# Altium footprint library Miscellaneous Devices LC.PcbLib: 559 footprints (part 27 of 35)
Each footprint in its own frame and in the unit in brackets; x right, y up, seen from the top. Pads: shape width x height; smd on the part's side, far side on the other; paste and mask are expansions set on the pad; w line width, h text height; cw(c..) or ccw(c..) is an arc to the next point about the centre after c.
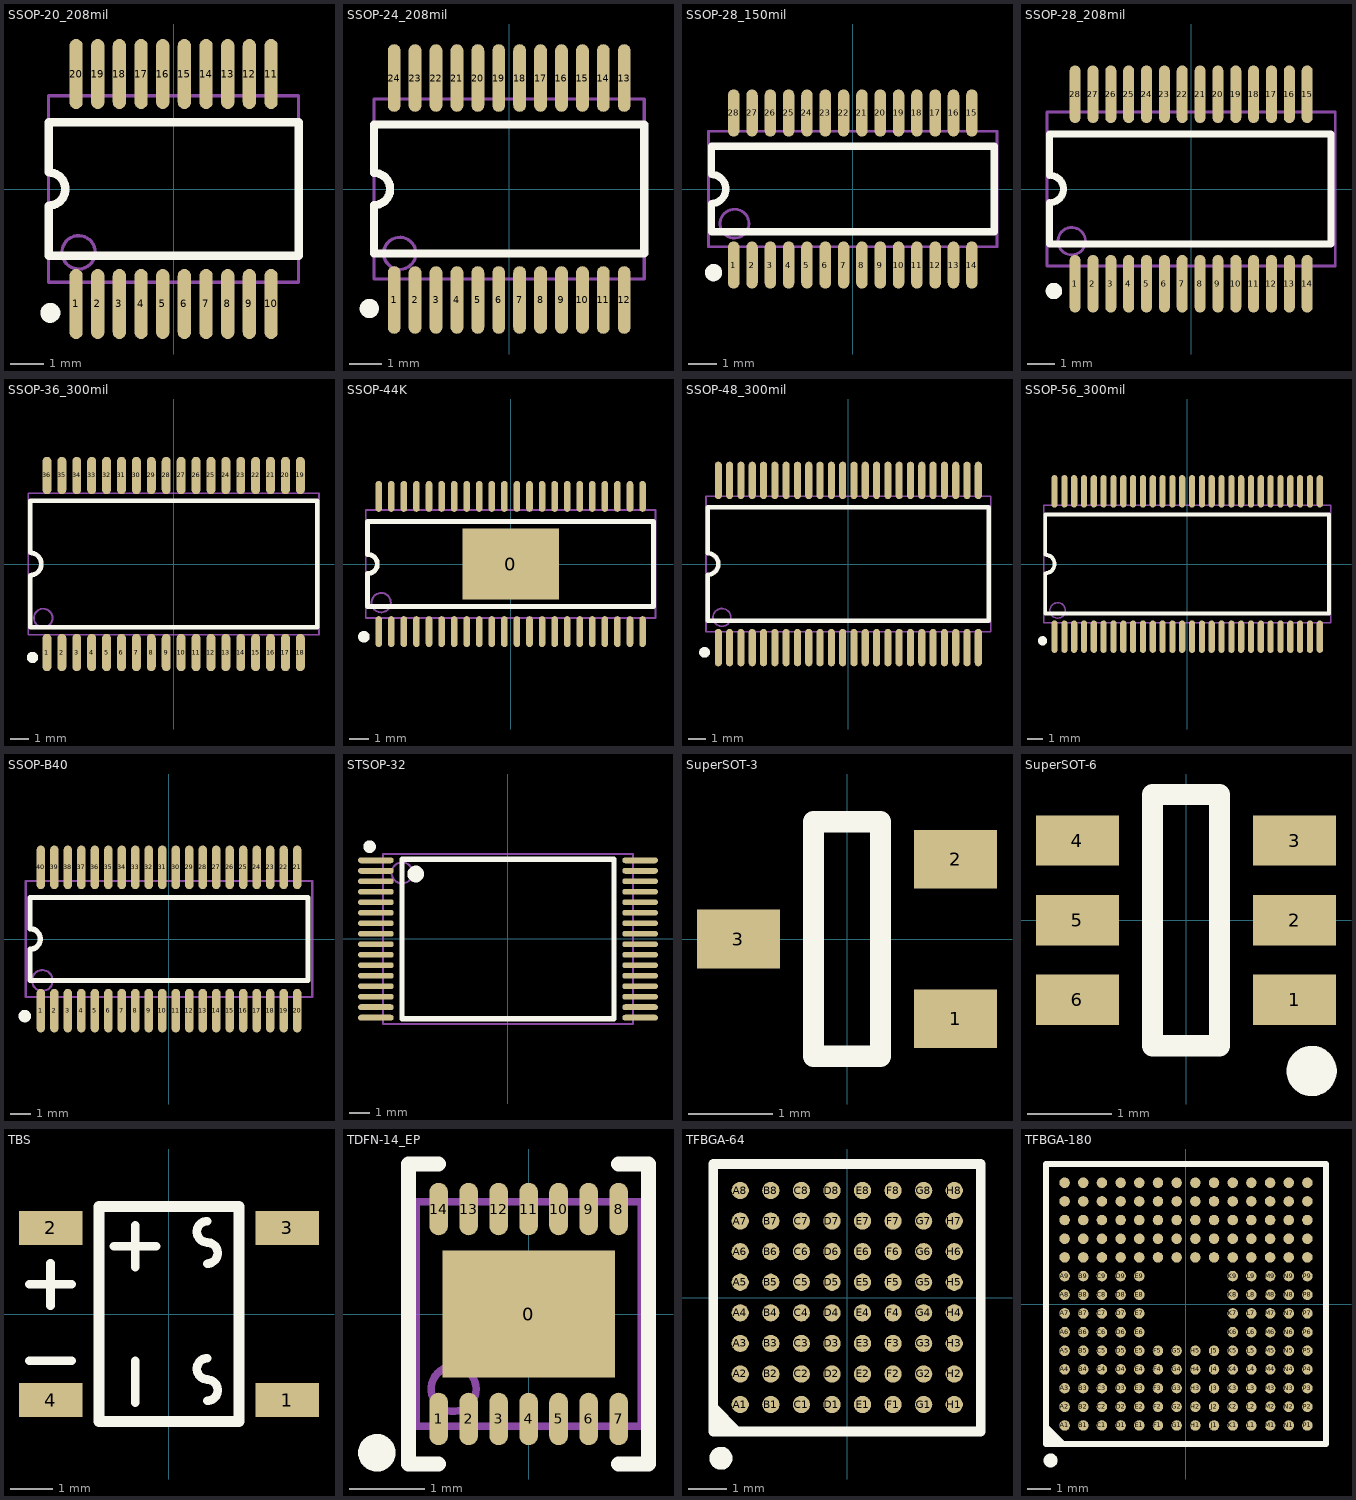
[diagram p26: the footprints below, top view; thin cyan lines are the x and y axes]

## SSOP-20_208mil [mm]
pads (20):
  oval 0.4x2.1 smd mask+0.051: 1(-2.925,-3.45) 2(-2.275,-3.45) 3(-1.625,-3.45) 4(-0.975,-3.45) 5(-0.325,-3.45) 6(0.325,-3.45) 7(0.975,-3.45) 8(1.625,-3.45) 9(2.275,-3.45) 10(2.925,-3.45) 11(2.925,3.45) 12(2.275,3.45) 13(1.625,3.45) 14(0.975,3.45) 15(0.325,3.45) 16(-0.325,3.45) 17(-0.975,3.45) 18(-1.625,3.45) 19(-2.275,3.45) 20(-2.925,3.45)
Top Overlay:
  circle w0.3: c-3.697,-3.715 r0.15
  lines w0.254: -3.75,-2 -3.75,-0.5 ccw(c-3.75,0) -3.75,0.5 -3.75,2 3.75,2 3.75,-2 -3.75,-2
Mechanical 13:
  circle w0.1: c-2.85,-1.9 r0.5
  lines w0.1: -3.75,-2.8 3.75,-2.8 3.75,2.8 -3.75,2.8 -3.75,-2.8

## SSOP-24_208mil [mm]
pads (24):
  oval 0.4x2.1 smd mask+0.051: 1(-3.575,-3.45) 2(-2.925,-3.45) 3(-2.275,-3.45) 4(-1.625,-3.45) 5(-0.975,-3.45) 6(-0.325,-3.45) 7(0.325,-3.45) 8(0.975,-3.45) 9(1.625,-3.45) 10(2.275,-3.45) 11(2.925,-3.45) 12(3.575,-3.45) 13(3.575,3.45) 14(2.925,3.45) 15(2.275,3.45) 16(1.625,3.45) 17(0.975,3.45) 18(0.325,3.45) 19(-0.325,3.45) 20(-0.975,3.45) 21(-1.625,3.45) 22(-2.275,3.45) 23(-2.925,3.45) 24(-3.575,3.45)
Top Overlay:
  circle w0.3: c-4.347,-3.715 r0.15
  lines w0.254: -4.2,-2 -4.2,-0.5 ccw(c-4.2,0) -4.2,0.5 -4.2,2 4.2,2 4.2,-2 -4.2,-2
Mechanical 13:
  circle w0.1: c-3.4,-2 r0.5
  lines w0.1: -4.2,-2.8 -4.2,2.8 4.2,2.8 4.2,-2.8 -4.2,-2.8

## SSOP-28_150mil [mm]
pads (28):
  oval 0.4x1.63 smd mask+0.051: 1(-4.127,-2.635) 2(-3.492,-2.635) 3(-2.857,-2.635) 4(-2.222,-2.635) 5(-1.587,-2.635) 6(-0.952,-2.635) 7(-0.317,-2.635) 8(0.318,-2.635) 9(0.953,-2.635) 10(1.588,-2.635) 11(2.223,-2.635) 12(2.858,-2.635) 13(3.493,-2.635) 14(4.128,-2.635) 15(4.128,2.635) 16(3.493,2.635) 17(2.858,2.635) 18(2.223,2.635) 19(1.588,2.635) 20(0.953,2.635) 21(0.318,2.635) 22(-0.317,2.635) 23(-0.952,2.635) 24(-1.587,2.635) 25(-2.222,2.635) 26(-2.857,2.635) 27(-3.492,2.635) 28(-4.127,2.635)
Top Overlay:
  circle w0.3: c-4.825,-2.9 r0.15
  lines w0.254: -4.9,-1.48 4.9,-1.48 4.9,1.48 -4.9,1.48 -4.9,0.5 cw(c-4.9,0) -4.9,-0.5 -4.9,-1.48
Mechanical 13:
  circle w0.1: c-4.1,-1.2 r0.5
  lines w0.1: -5,-2 -5,2 5,2 5,-2 -5,-2

## SSOP-28_208mil [mm]
pads (28):
  oval 0.4x2.1 smd mask+0.051: 1(-4.225,-3.45) 2(-3.575,-3.45) 3(-2.925,-3.45) 4(-2.275,-3.45) 5(-1.625,-3.45) 6(-0.975,-3.45) 7(-0.325,-3.45) 8(0.325,-3.45) 9(0.975,-3.45) 10(1.625,-3.45) 11(2.275,-3.45) 12(2.925,-3.45) 13(3.575,-3.45) 14(4.225,-3.45) 15(4.225,3.45) 16(3.575,3.45) 17(2.925,3.45) 18(2.275,3.45) 19(1.625,3.45) 20(0.975,3.45) 21(0.325,3.45) 22(-0.325,3.45) 23(-0.975,3.45) 24(-1.625,3.45) 25(-2.275,3.45) 26(-2.925,3.45) 27(-3.575,3.45) 28(-4.225,3.45)
Top Overlay:
  circle w0.3: c-4.998,-3.715 r0.15
  lines w0.254: -5.15,-2 -5.15,-0.5 ccw(c-5.15,0) -5.15,0.5 -5.15,2 5.1,2 5.1,-2 -5.15,-2
Mechanical 13:
  circle w0.1: c-4.35,-1.9 r0.5
  lines w0.1: -5.25,-2.8 -5.25,2.8 5.25,2.8 5.25,-2.8 -5.25,-2.8

## SSOP-36_300mil [mm]
pads (36):
  oval 0.48x2 smd: 1(-6.8,-4.75) 2(-6,-4.75) 3(-5.2,-4.75) 4(-4.4,-4.75) 5(-3.6,-4.75) 6(-2.8,-4.75) 7(-2,-4.75) 8(-1.2,-4.75) 9(-0.4,-4.75) 10(0.4,-4.75) 11(1.2,-4.75) 12(2,-4.75) 13(2.8,-4.75) 14(3.6,-4.75) 15(4.4,-4.75) 16(5.2,-4.75) 17(6,-4.75) 18(6.8,-4.75) 19(6.8,4.75) 20(6,4.75) 21(5.2,4.75) 22(4.4,4.75) 23(3.6,4.75) 24(2.8,4.75) 25(2,4.75) 26(1.2,4.75) 27(0.4,4.75) 28(-0.4,4.75) 29(-1.2,4.75) 30(-2,4.75) 31(-2.8,4.75) 32(-3.6,4.75) 33(-4.4,4.75) 34(-5.2,4.75) 35(-6,4.75) 36(-6.8,4.75)
Top Overlay:
  circle w0.3: c-7.572,-5.015 r0.15
  lines w0.254: -7.7,-3.4 -7.7,-0.6 ccw(c-7.7,0) -7.7,0.6 -7.7,3.4 7.7,3.4 7.7,-3.4 -7.7,-3.4
Mechanical 13:
  circle w0.1: c-7,-2.9 r0.5
  lines w0.1: -7.8,-3.8 -7.8,3.8 7.8,3.8 7.8,-3.8 -7.8,-3.8

## SSOP-44K [mm]
pads (45):
  rect 5x3.7 smd: 0(0,0)
  oval 0.34x1.6 smd: 1(-6.825,-3.5) 2(-6.175,-3.5) 3(-5.525,-3.5) 4(-4.875,-3.5) 5(-4.225,-3.5) 6(-3.575,-3.5) 7(-2.925,-3.5) 8(-2.275,-3.5) 9(-1.625,-3.5) 10(-0.975,-3.5) 11(-0.325,-3.5) 12(0.325,-3.5) 13(0.975,-3.5) 14(1.625,-3.5) 15(2.275,-3.5) 16(2.925,-3.5) 17(3.575,-3.5) 18(4.225,-3.5) 19(4.875,-3.5) 20(5.525,-3.5) 21(6.175,-3.5) 22(6.825,-3.5) 23(6.825,3.5) 24(6.175,3.5) 25(5.525,3.5) 26(4.875,3.5) 27(4.225,3.5) 28(3.575,3.5) 29(2.925,3.5) 30(2.275,3.5) 31(1.625,3.5) 32(0.975,3.5) 33(0.325,3.5) 34(-0.325,3.5) 35(-0.975,3.5) 36(-1.625,3.5) 37(-2.275,3.5) 38(-2.925,3.5) 39(-3.575,3.5) 40(-4.225,3.5) 41(-4.875,3.5) 42(-5.525,3.5) 43(-6.175,3.5) 44(-6.825,3.5)
Top Overlay:
  circle w0.3: c-7.597,-3.765 r0.15
  lines w0.254: -7.4,-2.2 7.4,-2.2 7.4,2.2 -7.4,2.2 -7.4,0.5 cw(c-7.4,0) -7.4,-0.5 -7.4,-2.2
Mechanical 13:
  circle w0.1: c-6.7,-2 r0.5
  lines w0.1: -7.5,-2.8 7.5,-2.8 7.5,2.8 -7.5,2.8 -7.5,-2.8

## SSOP-48_300mil [mm]
pads (48):
  oval 0.4x2.1 smd mask+0.051: 1(-7.302,-4.7) 2(-6.667,-4.7) 3(-6.032,-4.7) 4(-5.397,-4.7) 5(-4.763,-4.7) 6(-4.127,-4.7) 7(-3.492,-4.7) 8(-2.857,-4.7) 9(-2.222,-4.7) 10(-1.587,-4.7) 11(-0.953,-4.7) 12(-0.318,-4.7) 13(0.318,-4.7) 14(0.953,-4.7) 15(1.587,-4.7) 16(2.222,-4.7) 17(2.857,-4.7) 18(3.492,-4.7) 19(4.127,-4.7) 20(4.763,-4.7) 21(5.397,-4.7) 22(6.032,-4.7) 23(6.667,-4.7) 24(7.302,-4.7) 25(7.302,4.7) 26(6.667,4.7) 27(6.032,4.7) 28(5.397,4.7) 29(4.763,4.7) 30(4.127,4.7) 31(3.492,4.7) 32(2.857,4.7) 33(2.222,4.7) 34(1.587,4.7) 35(0.953,4.7) 36(0.318,4.7) 37(-0.318,4.7) 38(-0.953,4.7) 39(-1.587,4.7) 40(-2.222,4.7) 41(-2.857,4.7) 42(-3.492,4.7) 43(-4.127,4.7) 44(-4.763,4.7) 45(-5.397,4.7) 46(-6.032,4.7) 47(-6.667,4.7) 48(-7.302,4.7)
Top Overlay:
  circle w0.3: c-8.075,-4.965 r0.15
  lines w0.254: -7.9,-3.2 -7.9,-0.6 ccw(c-7.9,0) -7.9,0.6 -7.9,3.2 7.9,3.2 7.9,-3.2 -7.9,-3.2
Mechanical 13:
  circle w0.1: c-7.1,-3 r0.5
  lines w0.1: -8,-3.8 -8,3.8 8,3.8 8,-3.8 -8,-3.8

## SSOP-56_300mil [mm]
pads (56):
  oval 0.4x2.1 smd mask+0.051: 1(-8.572,-4.7) 2(-7.937,-4.7) 3(-7.302,-4.7) 4(-6.667,-4.7) 5(-6.032,-4.7) 6(-5.397,-4.7) 7(-4.762,-4.7) 8(-4.127,-4.7) 9(-3.492,-4.7) 10(-2.857,-4.7) 11(-2.222,-4.7) 12(-1.587,-4.7) 13(-0.952,-4.7) 14(-0.317,-4.7) 15(0.318,-4.7) 16(0.953,-4.7) 17(1.588,-4.7) 18(2.223,-4.7) 19(2.858,-4.7) 20(3.493,-4.7) 21(4.128,-4.7) 22(4.763,-4.7) 23(5.398,-4.7) 24(6.033,-4.7) 25(6.668,-4.7) 26(7.303,-4.7) 27(7.938,-4.7) 28(8.573,-4.7) 29(8.573,4.7) 30(7.938,4.7) 31(7.303,4.7) 32(6.668,4.7) 33(6.033,4.7) 34(5.398,4.7) 35(4.763,4.7) 36(4.128,4.7) 37(3.493,4.7) 38(2.858,4.7) 39(2.223,4.7) 40(1.588,4.7) 41(0.953,4.7) 42(0.318,4.7) 43(-0.317,4.7) 44(-0.952,4.7) 45(-1.587,4.7) 46(-2.222,4.7) 47(-2.857,4.7) 48(-3.492,4.7) 49(-4.127,4.7) 50(-4.762,4.7) 51(-5.397,4.7) 52(-6.032,4.7) 53(-6.667,4.7) 54(-7.302,4.7) 55(-7.937,4.7) 56(-8.572,4.7)
Top Overlay:
  circle w0.3: c-9.345,-4.965 r0.15
  lines w0.254: -9.17,-3.2 9.17,-3.2 9.17,3.2 -9.17,3.2 -9.17,0.6 cw(c-9.17,0) -9.17,-0.6 -9.17,-3.2
Mechanical 13:
  circle w0.1: c-8.37,-3 r0.5
  lines w0.1: -9.27,-3.8 9.27,-3.8 9.27,3.8 -9.27,3.8 -9.27,-3.8

## SSOP-B40 [mm]
pads (40):
  oval 0.4x2.1 smd mask+0.051: 1(-6.175,-3.45) 2(-5.525,-3.45) 3(-4.875,-3.45) 4(-4.225,-3.45) 5(-3.575,-3.45) 6(-2.925,-3.45) 7(-2.275,-3.45) 8(-1.625,-3.45) 9(-0.975,-3.45) 10(-0.325,-3.45) 11(0.325,-3.45) 12(0.975,-3.45) 13(1.625,-3.45) 14(2.275,-3.45) 15(2.925,-3.45) 16(3.575,-3.45) 17(4.225,-3.45) 18(4.875,-3.45) 19(5.525,-3.45) 20(6.175,-3.45) 21(6.175,3.45) 22(5.525,3.45) 23(4.875,3.45) 24(4.225,3.45) 25(3.575,3.45) 26(2.925,3.45) 27(2.275,3.45) 28(1.625,3.45) 29(0.975,3.45) 30(0.325,3.45) 31(-0.325,3.45) 32(-0.975,3.45) 33(-1.625,3.45) 34(-2.275,3.45) 35(-2.925,3.45) 36(-3.575,3.45) 37(-4.225,3.45) 38(-4.875,3.45) 39(-5.525,3.45) 40(-6.175,3.45)
Top Overlay:
  circle w0.3: c-6.947,-3.715 r0.15
  lines w0.254: -6.7,-2 -6.7,-0.5 ccw(c-6.7,0) -6.7,0.5 -6.7,2 6.7,2 6.7,-2 -6.7,-2
Mechanical 13:
  circle w0.1: c-6.1,-2 r0.5
  lines w0.1: -6.9,-2.8 6.9,-2.8 6.9,2.8 -6.9,2.8 -6.9,-2.8

## STSOP-32 [mm]
pads (32):
  oval 1.7x0.28 smd mask+0.051: 1(-6.3,3.75) 2(-6.3,3.25) 3(-6.3,2.75) 4(-6.3,2.25) 5(-6.3,1.75) 6(-6.3,1.25) 7(-6.3,0.75) 8(-6.3,0.25) 9(-6.3,-0.25) 10(-6.3,-0.75) 11(-6.3,-1.25) 12(-6.3,-1.75) 13(-6.3,-2.25) 14(-6.3,-2.75) 15(-6.3,-3.25) 16(-6.3,-3.75) 17(6.3,-3.75) 18(6.3,-3.25) 19(6.3,-2.75) 20(6.3,-2.25) 21(6.3,-1.75) 22(6.3,-1.25) 23(6.3,-0.75) 24(6.3,-0.25) 25(6.3,0.25) 26(6.3,0.75) 27(6.3,1.25) 28(6.3,1.75) 29(6.3,2.25) 30(6.3,2.75) 31(6.3,3.25) 32(6.3,3.75)
Top Overlay:
  circle w0.3: c-6.6,4.4 r0.15
  circle w0.4: c-4.4,3.1 r0.2
  lines w0.254: -5.05,-3.8 5.05,-3.8 5.05,3.8 -5.05,3.8 -5.05,-3.8
Mechanical 13:
  circle w0.1: c-5.05,3.15 r0.5
  lines w0.1: -5.95,-4.05 5.95,-4.05 5.95,4.05 -5.95,4.05 -5.95,-4.05

## SuperSOT-3 [mm] "= SSOT-3"
pads (3):
  rect 0.99x0.7 smd: 1(1.295,-0.95) 2(1.295,0.95) 3(-1.295,0)
Top Overlay:
  lines w0.254: -0.4,-1.4 -0.4,1.4 0.4,1.4 0.4,-1.4 -0.4,-1.4

## SuperSOT-6 [mm] "= SSOT-6"
pads (6):
  rect 0.99x0.6 smd: 1(1.295,-0.95) 2(1.295,0) 3(1.295,0.95) 4(-1.295,0.95) 5(-1.295,0) 6(-1.295,-0.95)
Top Overlay:
  circle w0.3: c1.5,-1.8 r0.15
  lines w0.254: -0.4,-1.5 -0.4,1.5 0.4,1.5 0.4,-1.5 -0.4,-1.5

## TBS [mm]
pads (4):
  rect 1.5x0.8 smd: 1(2.794,-2.032) 2(-2.794,2.032) 3(2.794,2.032) 4(-2.794,-2.032)
Top Overlay:
  lines w0.203: -3.3,-1.1 -2.3,-1.1 ; -3.3,0.7 -2.3,0.7 ; -2.8,0.2 -2.8,1.2 ; -1.3,1.6 -0.3,1.6 ; -0.8,-2.1 -0.8,-1.1 ; -0.8,1.1 -0.8,2.1 ; 0.9,-2.05 ccw(c0.9,-1.8) 0.9,-1.55 ; 0.9,1.19 ccw(c0.9,1.44) 0.9,1.69 ; 0.908,-1.545 cw(c0.908,-1.295) 0.908,-1.045 ; 0.908,1.695 cw(c0.908,1.945) 0.908,2.195
  lines w0.254: -1.651,-2.54 -1.651,2.54 1.651,2.54 1.651,-2.54 -1.651,-2.54

## TDFN-14_EP [mm]
pads (15):
  rect 2.3x1.7 smd mask+0.051: 0(0,0)
  oval 0.25x0.7 smd mask+0.051: 1(-1.2,-1.4) 2(-0.8,-1.4) 3(-0.4,-1.4) 4(0,-1.4) 5(0.4,-1.4) 6(0.8,-1.4) 7(1.2,-1.4) 8(1.2,1.4) 9(0.8,1.4) 10(0.4,1.4) 11(0,1.4) 12(-0.4,1.4) 13(-0.8,1.4) 14(-1.2,1.4)
Top Overlay:
  circle w0.25: c-2.025,-1.85 r0.125
  lines w0.2: -1.2,-2 -1.6,-2 -1.6,2 -1.2,2 ; 1.2,-2 1.6,-2 1.6,2 1.2,2
Mechanical 13:
  circle w0.1: c-1,-1 r0.3
  lines w0.1: -1.5,-1.5 1.5,-1.5 1.5,1.5 -1.5,1.5 -1.5,-1.5

## TFBGA-64 [mm]
pads (64):
  round 0.45 smd mask+0.051: A1(-2.8,-2.8) A2(-2.8,-2) A3(-2.8,-1.2) A4(-2.8,-0.4) A5(-2.8,0.4) A6(-2.8,1.2) A7(-2.8,2) A8(-2.8,2.8) B1(-2,-2.8) B2(-2,-2) B3(-2,-1.2) B4(-2,-0.4) B5(-2,0.4) B6(-2,1.2) B7(-2,2) B8(-2,2.8) C1(-1.2,-2.8) C2(-1.2,-2) C3(-1.2,-1.2) C4(-1.2,-0.4) C5(-1.2,0.4) C6(-1.2,1.2) C7(-1.2,2) C8(-1.2,2.8) D1(-0.4,-2.8) D2(-0.4,-2) D3(-0.4,-1.2) D4(-0.4,-0.4) D5(-0.4,0.4) D6(-0.4,1.2) D7(-0.4,2) D8(-0.4,2.8) E1(0.4,-2.8) E2(0.4,-2) E3(0.4,-1.2) E4(0.4,-0.4) E5(0.4,0.4) E6(0.4,1.2) E7(0.4,2) E8(0.4,2.8) F1(1.2,-2.8) F2(1.2,-2) F3(1.2,-1.2) F4(1.2,-0.4) F5(1.2,0.4) F6(1.2,1.2) F7(1.2,2) F8(1.2,2.8) G1(2,-2.8) G2(2,-2) G3(2,-1.2) G4(2,-0.4) G5(2,0.4) G6(2,1.2) G7(2,2) G8(2,2.8) H1(2.8,-2.8) H2(2.8,-2) H3(2.8,-1.2) H4(2.8,-0.4) H5(2.8,0.4) H6(2.8,1.2) H7(2.8,2) H8(2.8,2.8)
Top Overlay:
  circle w0.3: c-3.306,-4.206 r0.15
  region: -3.456,-2.756 -2.756,-3.456 -3.456,-3.456
  lines w0.254: -3.506,-3.506 3.494,-3.506 3.494,3.494 -3.506,3.494 -3.506,-3.506

## TFBGA-180 [mm]
pads (180):
  round 0.45 smd mask+0.051: A1(-5.2,-5.2) A2(-5.2,-4.4) A3(-5.2,-3.6) A4(-5.2,-2.8) A5(-5.2,-2) A6(-5.2,-1.2) A7(-5.2,-0.4) A8(-5.2,0.4) A9(-5.2,1.2) A10(-5.2,2) A11(-5.2,2.8) A12(-5.2,3.6) A13(-5.2,4.4) A14(-5.2,5.2) B1(-4.4,-5.2) B2(-4.4,-4.4) B3(-4.4,-3.6) B4(-4.4,-2.8) B5(-4.4,-2) B6(-4.4,-1.2) B7(-4.4,-0.4) B8(-4.4,0.4) B9(-4.4,1.2) B10(-4.4,2) B11(-4.4,2.8) B12(-4.4,3.6) B13(-4.4,4.4) B14(-4.4,5.2) C1(-3.6,-5.2) C2(-3.6,-4.4) C3(-3.6,-3.6) C4(-3.6,-2.8) C5(-3.6,-2) C6(-3.6,-1.2) C7(-3.6,-0.4) C8(-3.6,0.4) C9(-3.6,1.2) C10(-3.6,2) C11(-3.6,2.8) C12(-3.6,3.6) C13(-3.6,4.4) C14(-3.6,5.2) D1(-2.8,-5.2) D2(-2.8,-4.4) D3(-2.8,-3.6) D4(-2.8,-2.8) D5(-2.8,-2) D6(-2.8,-1.2) D7(-2.8,-0.4) D8(-2.8,0.4) D9(-2.8,1.2) D10(-2.8,2) D11(-2.8,2.8) D12(-2.8,3.6) D13(-2.8,4.4) D14(-2.8,5.2) E1(-2,-5.2) E2(-2,-4.4) E3(-2,-3.6) E4(-2,-2.8) E5(-2,-2) E6(-2,-1.2) E7(-2,-0.4) E8(-2,0.4) E9(-2,1.2) E10(-2,2) E11(-2,2.8) E12(-2,3.6) E13(-2,4.4) E14(-2,5.2) F1(-1.2,-5.2) F2(-1.2,-4.4) F3(-1.2,-3.6) F4(-1.2,-2.8) F5(-1.2,-2) F10(-1.2,2) F11(-1.2,2.8) F12(-1.2,3.6) F13(-1.2,4.4) F14(-1.2,5.2) G1(-0.4,-5.2) G2(-0.4,-4.4) G3(-0.4,-3.6) G4(-0.4,-2.8) G5(-0.4,-2) G10(-0.4,2) G11(-0.4,2.8) G12(-0.4,3.6) G13(-0.4,4.4) G14(-0.4,5.2) H1(0.4,-5.2) H2(0.4,-4.4) H3(0.4,-3.6) H4(0.4,-2.8) H5(0.4,-2) H10(0.4,2) H11(0.4,2.8) H12(0.4,3.6) H13(0.4,4.4) H14(0.4,5.2) J1(1.2,-5.2) J2(1.2,-4.4) J3(1.2,-3.6) J4(1.2,-2.8) J5(1.2,-2) J10(1.2,2) J11(1.2,2.8) J12(1.2,3.6) J13(1.2,4.4) J14(1.2,5.2) K1(2,-5.2) K2(2,-4.4) K3(2,-3.6) K4(2,-2.8) K5(2,-2) K6(2,-1.2) K7(2,-0.4) K8(2,0.4) K9(2,1.2) K10(2,2) K11(2,2.8) K12(2,3.6) K13(2,4.4) K14(2,5.2) L1(2.8,-5.2) L2(2.8,-4.4) L3(2.8,-3.6) L4(2.8,-2.8) L5(2.8,-2) L6(2.8,-1.2) L7(2.8,-0.4) L8(2.8,0.4) L9(2.8,1.2) L10(2.8,2) L11(2.8,2.8) L12(2.8,3.6) L13(2.8,4.4) L14(2.8,5.2) M1(3.6,-5.2) M2(3.6,-4.4) M3(3.6,-3.6) M4(3.6,-2.8) M5(3.6,-2) M6(3.6,-1.2) M7(3.6,-0.4) M8(3.6,0.4) M9(3.6,1.2) M10(3.6,2) M11(3.6,2.8) M12(3.6,3.6) M13(3.6,4.4) M14(3.6,5.2) N1(4.4,-5.2) N2(4.4,-4.4) N3(4.4,-3.6) N4(4.4,-2.8) N5(4.4,-2) N6(4.4,-1.2) N7(4.4,-0.4) N8(4.4,0.4) N9(4.4,1.2) N10(4.4,2) N11(4.4,2.8) N12(4.4,3.6) N13(4.4,4.4) N14(4.4,5.2) P1(5.2,-5.2) P2(5.2,-4.4) P3(5.2,-3.6) P4(5.2,-2.8) P5(5.2,-2) P6(5.2,-1.2) P7(5.2,-0.4) P8(5.2,0.4) P9(5.2,1.2) P10(5.2,2) P11(5.2,2.8) P12(5.2,3.6) P13(5.2,4.4) P14(5.2,5.2)
Top Overlay:
  circle w0.3: c-5.8,-6.7 r0.15
  region: -5.95,-5.15 -5.15,-5.95 -5.95,-5.95
  lines w0.254: -6,-6 6,-6 6,6 -6,6 -6,-6